# Altium integrated library JieLi.IntLib: 5 symbols
Pins are listed as number, name and electrical type; pins without a type are passive.

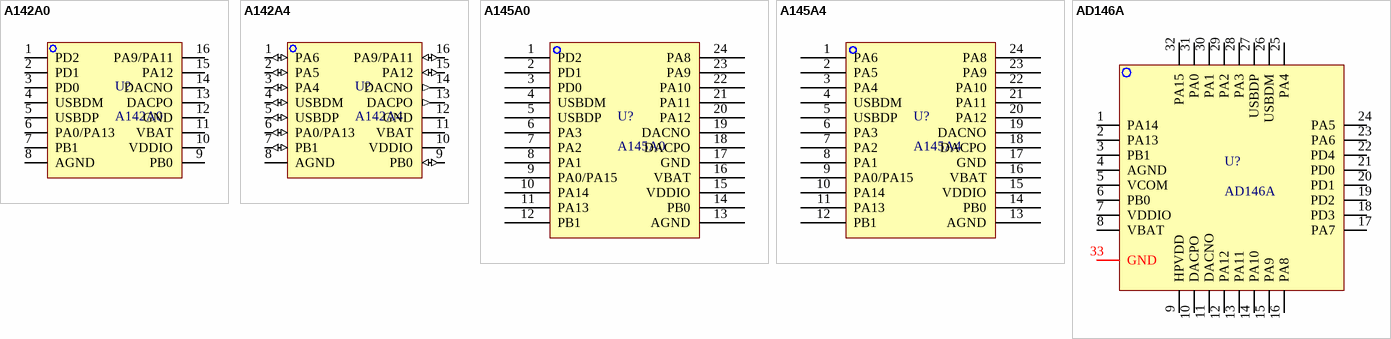
[diagram p0: symbols A142A0 to AD146A]

## A142A0
designator U?
footprint SOP127P600X175-16M (SOP, 16-Leads, Body 9.90x3.90mm, Pitch 1.27mm, IPC Low Density)
pins: 1 PD2, 2 PD1, 3 PD0, 4 USBDM, 5 USBDP, 6 PA0/PA13, 7 PB1, 8 AGND, 9 PB0, 10 VDDIO, 11 VBAT, 12 GND, 13 DACPO, 14 DACNO, 15 PA12, 16 PA9/PA11

## A142A4
designator U?
footprint SOP127P600X175-16M (SOP, 16-Leads, Body 9.90x3.90mm, Pitch 1.27mm, IPC Low Density)
pins: 1 PA6 (io), 2 PA5 (io), 3 PA4 (io), 4 USBDM (io), 5 USBDP (io), 6 PA0/PA13 (io), 7 PB1 (io), 8 AGND (power) "Analog Ground", 9 PB0 (io), 10 VDDIO (power) "GPIO Power", 11 VBAT (power) "Battery Power Supply", 12 GND (power), 13 DACPO (out) "Class-D APA Possitive Output", 14 DACNO (out) "Class-D APA Negative Output", 15 PA12 (io), 16 PA9/PA11 (io)

## A145A0
designator U?
footprint QSOP64P600X175-24N (QSOP, 24-Leads, Body 8.65x3.90mm, Pitch 0.64mm, IPC Medium Density)
pins: 1 PD2, 2 PD1, 3 PD0, 4 USBDM, 5 USBDP, 6 PA3, 7 PA2, 8 PA1, 9 PA0/PA15, 10 PA14, 11 PA13, 12 PB1, 13 AGND, 14 PB0, 15 VDDIO, 16 VBAT, 17 GND, 18 DACPO, 19 DACNO, 20 PA12, 21 PA11, 22 PA10, 23 PA9, 24 PA8

## A145A4
designator U?
footprint QSOP64P600X175-24N (QSOP, 24-Leads, Body 8.65x3.90mm, Pitch 0.64mm, IPC Medium Density)
pins: 1 PA6, 2 PA5, 3 PA4, 4 USBDM, 5 USBDP, 6 PA3, 7 PA2, 8 PA1, 9 PA0/PA15, 10 PA14, 11 PA13, 12 PB1, 13 AGND, 14 PB0, 15 VDDIO, 16 VBAT, 17 GND, 18 DACPO, 19 DACNO, 20 PA12, 21 PA11, 22 PA10, 23 PA9, 24 PA8

## AD146A
designator U?
footprint QFN40P400X400X80_HS-33N (QFN, 32-Leads, Body 4.00x4.00mm, Pitch 0.40mm, Thermal Pad 2.65x2.65mm, IPC Medium Density)
pins: 1 PA14, 2 PA13, 3 PB1, 4 AGND, 5 VCOM, 6 PB0, 7 VDDIO, 8 VBAT, 9 HPVDD, 10 DACPO, 11 DACNO, 12 PA12, 13 PA11, 14 PA10, 15 PA9, 16 PA8, 17 PA7, 18 PD3, 19 PD2, 20 PD1, 21 PD0, 22 PD4, 23 PA6, 24 PA5, 25 PA4, 26 USBDM, 27 USBDP, 28 PA3, 29 PA2, 30 PA1, 31 PA0, 32 PA15, 33 GND "Ground"